# Altium footprint library CAP 0201.PcbLib: 1 footprints
Each footprint in its own frame and in the unit in brackets; x right, y up, seen from the top. Pads: shape width x height; smd on the part's side, far side on the other; paste and mask are expansions set on the pad; w line width, h text height; cw(c..) or ccw(c..) is an arc to the next point about the centre after c.
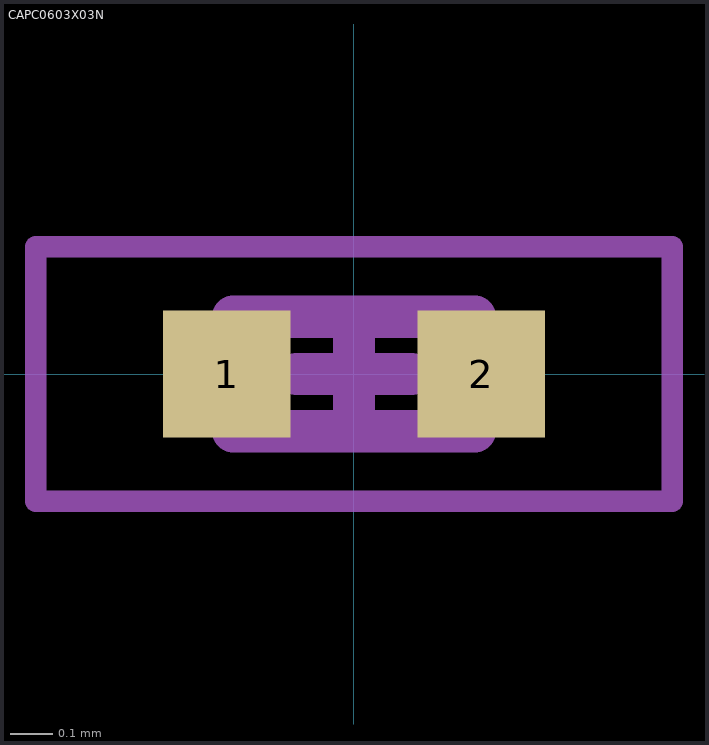
[diagram p0: the footprint, top view; thin cyan lines are the x and y axes]

## CAPC0603X03N [mm] "Chip Capacitor, 2-Leads, Body 0,60x0,30mm, IPC Medium Density"
height 0.3
pads (2):
  rect 0.3x0.3 smd: 1(-0.3,0) 2(0.3,0)
Mechanical 13:
  lines w0.1: -0.285,-0.135 0.285,-0.135 0.285,0.135 -0.285,0.135 -0.285,-0.135
Mechanical 15:
  lines w0.05: -0.75,-0.3 0.75,-0.3 0.75,0.3 -0.75,0.3 -0.75,-0.3
  lines w0.1: -0.135,0 0.135,0 ; 0,-0.135 0,0.135
3D body "74948.stp": height 0.33, standoff 0, extent -0.315,-0.178 0.315,0.152